# EAGLE library part DAC8562_DGS_10 (library shepherd)
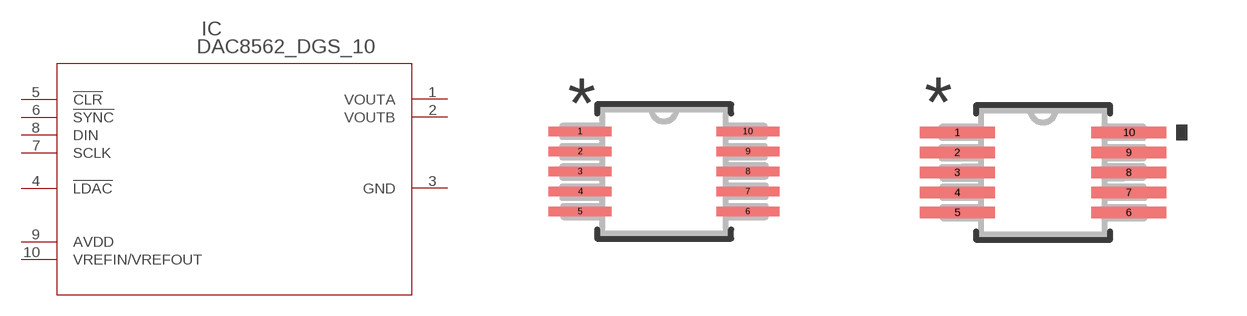
[diagram p22: symbol with the pads of DGS10; footprints DGS10, DGS10-M]

Designator prefix IC

## DAC8562_DGS_10 (MANUFACTURER_PART_NUMBER: DAC8562_DGS_10; VENDOR: Texas Instruments)  [DGS10]
1  VOUTA  out
2  VOUTB  out
3  GND  pwr
4  !LDAC  pas
5  !CLR  in
6  !SYNC  in
7  SCLK  in
8  DIN  in
9  AVDD  pwr
10  VREFIN/VREFOUT

## DAC8562_DGS_10DGS10-M (MANUFACTURER_PART_NUMBER: DAC8562_DGS_10; VENDOR: Texas Instruments)  [DGS10-M]
Pads as for DGS10

## DAC8562_DGS_10DGS10-L (MANUFACTURER_PART_NUMBER: DAC8562_DGS_10; VENDOR: Texas Instruments)  [DGS10-L]
Pads as for DGS10

## Footprint DGS10 (pad centres in mm)
smd 1.575 x 0.229: 1 -2.095,1; 2 -2.095,0.5; 3 -2.095,0; 4 -2.095,-0.5; 5 -2.095,-1; 6 2.095,-1; 7 2.095,-0.5; 8 2.095,0; 9 2.095,0.5; 10 2.095,1

## Footprint DGS10-M (pad centres in mm)
smd 1.88 x 0.279: 1 -2.146,1; 2 -2.146,0.5; 3 -2.146,0; 4 -2.146,-0.5; 5 -2.146,-1; 6 2.146,-1; 7 2.146,-0.5; 8 2.146,0; 9 2.146,0.5; 10 2.146,1

## Footprint DGS10-L (pad centres in mm)
smd 1.27 x 0.178: 1 -2.045,1; 2 -2.045,0.5; 3 -2.045,0; 4 -2.045,-0.5; 5 -2.045,-1; 6 2.045,-1; 7 2.045,-0.5; 8 2.045,0; 9 2.045,0.5; 10 2.045,1